# Altium footprint library SOT23-6.PcbLib: 1 footprints
Each footprint in its own frame and in the unit in brackets; x right, y up, seen from the top. Pads: shape width x height; smd on the part's side, far side on the other; paste and mask are expansions set on the pad; w line width, h text height; cw(c..) or ccw(c..) is an arc to the next point about the centre after c.
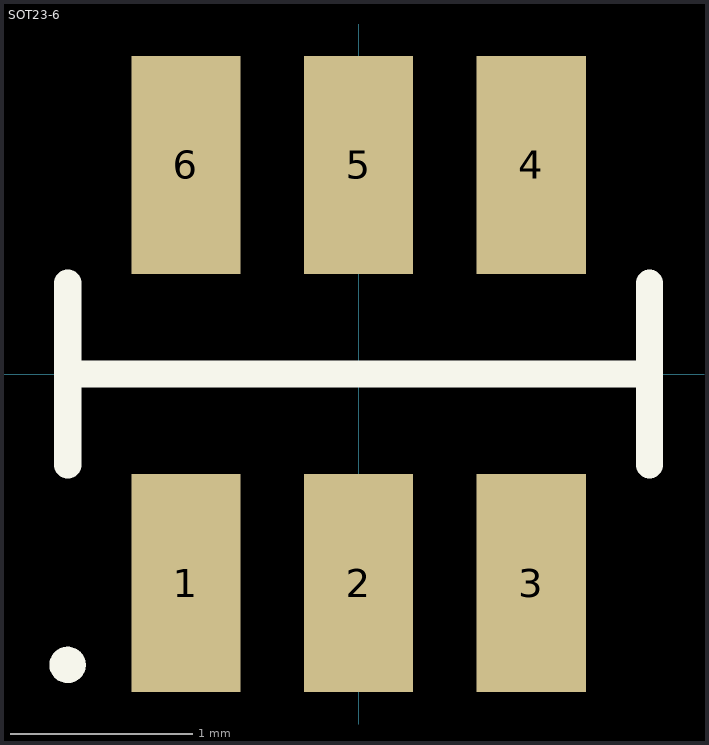
[diagram p0: the footprint, top view; thin cyan lines are the x and y axes]

## SOT23-6 [mm]
pads (6):
  rect 0.6x1.2 smd: 1(-0.95,-1.15) 2(0,-1.15) 3(0.95,-1.15) 4(0.95,1.15) 5(0,1.15) 6(-0.95,1.15)
Top Overlay:
  circle w0.1: c-1.6,-1.6 r0.05
  lines w0.15: -1.6,-0.5 -1.6,0.5 ; -1.6,0 1.6,0 ; 1.6,-0.5 1.6,0.5
3D body "step_temp.STEP": height 1.4, standoff -0.05, extent -1.462,-1.4 1.462,1.4